# Altium footprint library 0805-RES.PcbLib: 1 footprints
Each footprint in its own frame and in the unit in brackets; x right, y up, seen from the top. Pads: shape width x height; smd on the part's side, far side on the other; paste and mask are expansions set on the pad; w line width, h text height; cw(c..) or ccw(c..) is an arc to the next point about the centre after c.
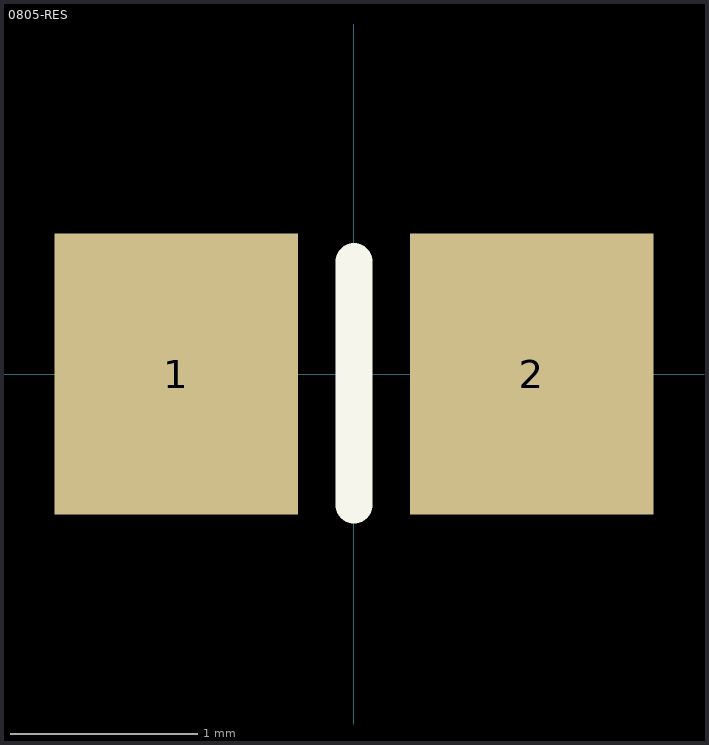
[diagram p0: the footprint, top view; thin cyan lines are the x and y axes]

## 0805-RES [mm]
height 1.3
pads (2):
  rect 1.3x1.5 smd: 1(-0.95,0) 2(0.95,0)
Top Overlay:
  lines w0.2: 0,-0.7 0,0.6
Mechanical 12:
  text ".Designator" at -0.762,-0.254 h0.51
3D body "0805 SMD Resistor.step": height 0.78, standoff 0, extent -1,-0.675 1,0.575